# Altium footprint library PcbLib1.PcbLib: 30 footprints (part 1 of 2)
Each footprint in its own frame and in the unit in brackets; x right, y up, seen from the top. Pads: shape width x height; smd on the part's side, far side on the other; paste and mask are expansions set on the pad; w line width, h text height; cw(c..) or ccw(c..) is an arc to the next point about the centre after c.
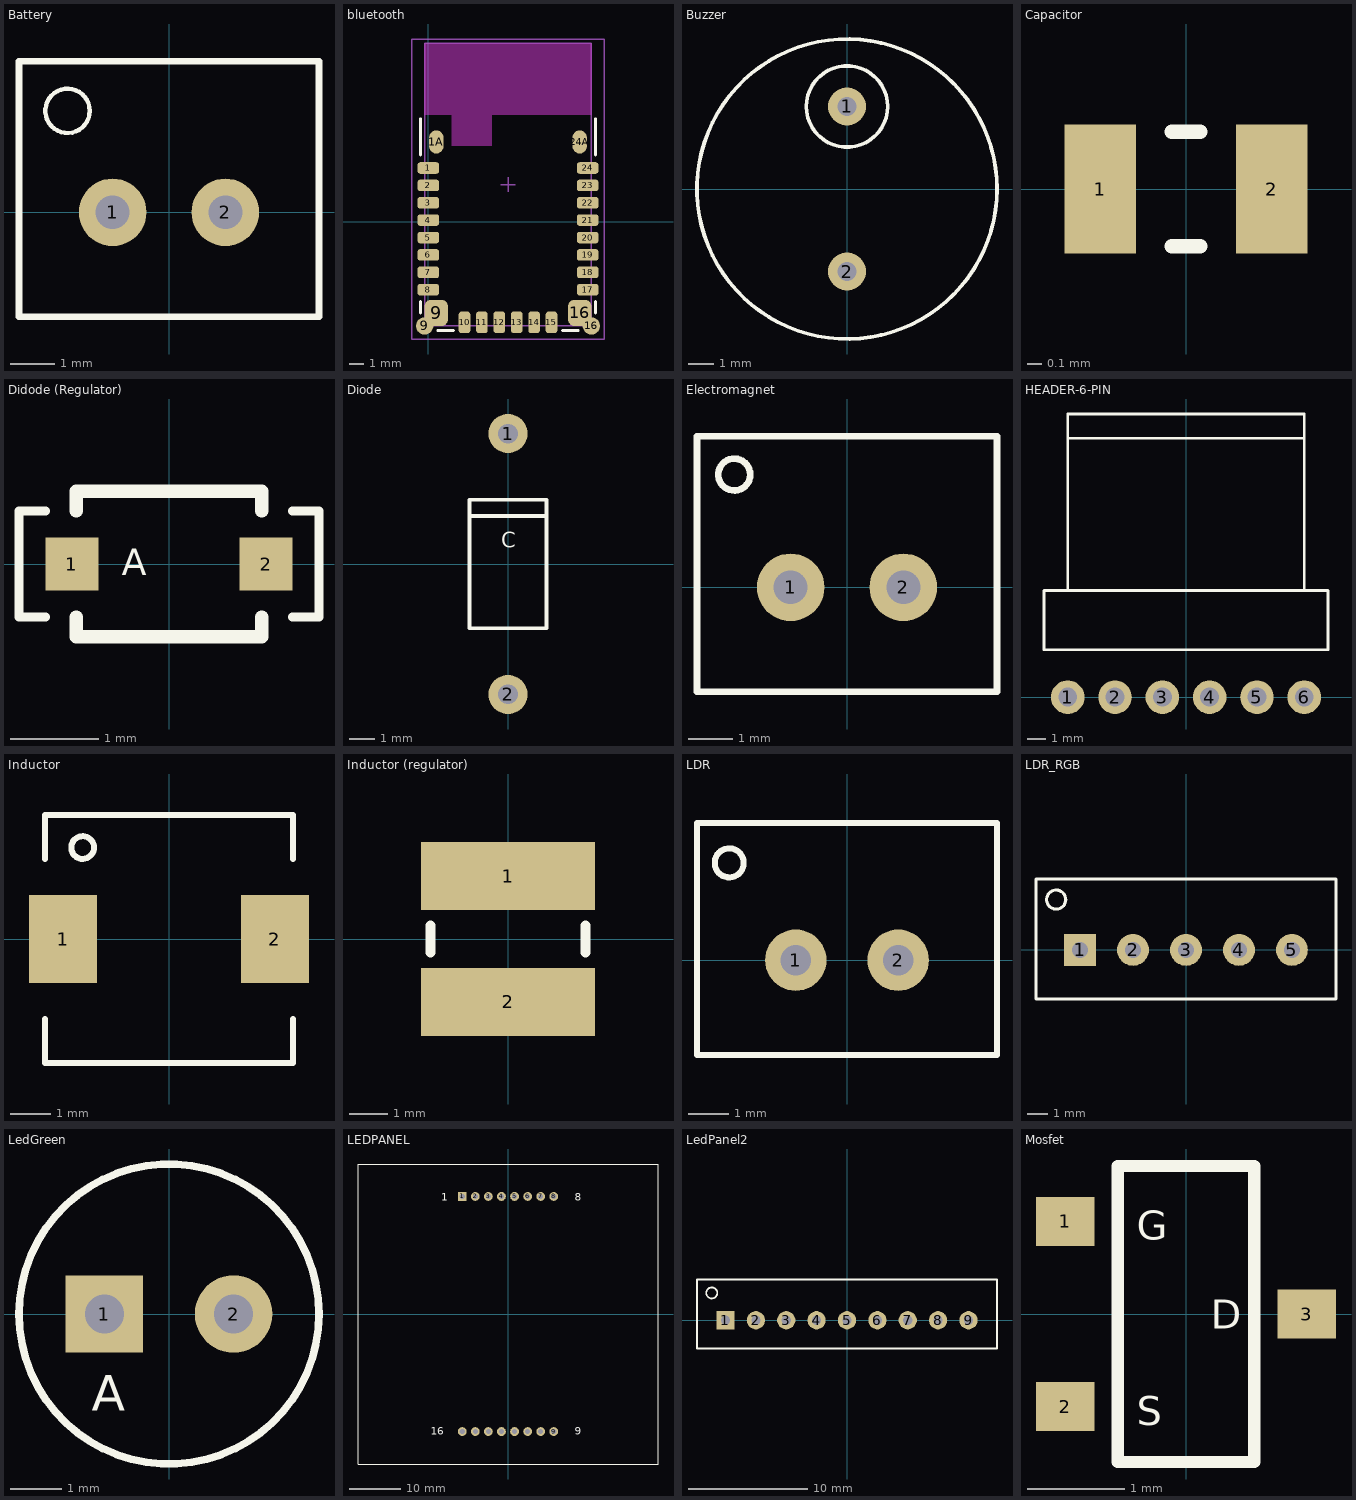
[diagram p0: the footprints below, top view; thin cyan lines are the x and y axes]

## Battery [mil]
pads (2):
  round 60 hole 30: 1(-50,0) 2(50,0)
Top Overlay:
  circle w3.94: c-90,90 r19.68
  lines w5.91: -133.07,-92.52 -133.07,133.86 133.07,133.86 133.07,-92.52 -133.07,-92.52

## bluetooth [mm] "RN4020"
pads (28):
  rrect50% 1.5x0.8 smd: 1(0,3.727) 2(0,2.527) 3(0,1.327) 4(0,0.127) 5(0,-1.073) 6(0,-2.273) 7(0,-3.473) 8(0,-4.673) 17(11,-4.673) 18(11,-3.473) 19(11,-2.273) 20(11,-1.073) 21(11,0.127) 22(11,1.327) 23(11,2.527) 24(11,3.727)
  oval 1x1.6 smd: 1A(0.55,5.527) 24A(10.45,5.527)
  round 1.2 smd: 9(-0.25,-7.173) 16(11.25,-7.173)
  rrect50% 1.6x1.8 smd: 9(0.55,-6.273) 16(10.45,-6.273)
  rrect50% 0.8x1.5 smd: 10(2.5,-6.923) 11(3.7,-6.923) 12(4.9,-6.923) 13(6.1,-6.923) 14(7.3,-6.923) 15(8.5,-6.923)
Top Overlay:
  lines w0.2: -0.55,-6.273 -0.55,-5.473 ; -0.55,4.627 -0.55,7.127 ; 0.65,-7.473 1.75,-7.473 ; 9.25,-7.473 10.35,-7.473 ; 11.55,-6.273 11.55,-5.473 ; 11.55,4.627 11.55,7.127
  text "." at -1.6,3.677 h1
Keep-Out Layer:
  rectangle: -0.25,7.377 11.25,12.327
  rectangle: 1.6,5.227 4.4,7.377
Mechanical 11:
  lines w0.1: -0.25,-7.173 -0.25,12.327 11.25,12.327 11.25,-7.173 -0.25,-7.173
Mechanical 15:
  lines w0.1: 5,2.577 6,2.577 ; 5.5,2.077 5.5,3.077 ; -1.15,-8.073 12.15,-8.073 12.15,12.627 -1.15,12.627 -1.15,-8.073

## Buzzer [mil] "ABT-414-RC"
pads (2):
  round 60 hole 30: 1(0,129.92) 2(0,-129.92)
Top Overlay:
  circle w5.91: c0,129.92 r64.08
  circle w5.91: c0,0 r236.22

## Capacitor [mm] "0603"
pads (2):
  rect 0.5x0.9 smd: 1(-0.6,0) 2(0.6,0)
Top Overlay:
  lines w0.1: -0.1,-0.4 0.1,-0.4 ; -0.1,0.4 0.1,0.4

## Didode (Regulator) [mm] "BAS316,115"
pads (2):
  rect 0.6x0.6 smd: 1(-1.1,0) 2(1.1,0)
Top Overlay:
  lines w0.1: -1.4,-0.6 -1.7,-0.6 -1.7,0.6 -1.4,0.6 ; 1.4,-0.6 1.7,-0.6 1.7,0.6 1.4,0.6
  lines w0.15: -1.05,-0.6 -1.05,-0.825 1.05,-0.825 1.05,-0.6 ; -1.05,0.6 -1.05,0.825 1.05,0.825 1.05,0.6
  text "A" at -0.254,-0.127 h0.3

## Diode [mil] "1N4001"
pads (2):
  round 60 hole 30: 1(0,200) 2(0,-200)
Top Overlay:
  lines w5.91: -59.06,73.43 59.06,73.43 ; -59.06,-98.43 -59.06,98.43 59.06,98.43 59.06,-98.43 -59.06,-98.43
  text "C" at -10,25 h23.62

## Electromagnet [mil]
pads (2):
  round 60 hole 30: 1(-50,0) 2(50,0)
Top Overlay:
  circle w5.91: c-100,100 r14.14
  lines w5.91: -133.07,-92.52 133.07,-92.52 133.07,133.86 -133.07,133.86 -133.07,-92.52

## HEADER-6-PIN [mm] "22-29-2061"
pads (6):
  round 1.8 hole 1.02: 1(-6.35,0) 2(-3.81,0) 3(-1.27,0) 4(1.27,0) 5(3.81,0) 6(6.35,0)
Top Overlay:
  lines w0.15: -6.35,5.73 -6.35,15.21 6.35,15.21 6.35,5.73 ; -6.35,13.91 6.35,13.91 ; -7.62,2.55 7.62,2.55 7.62,5.73 -7.62,5.73 -7.62,2.55

## Inductor [mm]
pads (2):
  rect 1.7x2.2 smd: 1(-2.65,0) 2(2.65,0)
Top Overlay:
  circle w0.15: c-2.159,2.286 r0.284
  lines w0.15: -3.1,-2 -3.1,-3.1 3.1,-3.1 3.1,-2 ; -3.1,2 -3.1,3.1 3.1,3.1 3.1,2

## Inductor (regulator) [mm] "744773139"
pads (2):
  rect 4.5x1.75 smd: 1(0,1.625) 2(0,-1.625)
Top Overlay:
  lines w0.254: -2,-0.35 -2,0.35 ; 2,-0.35 2,0.35

## LDR [mil] "NORPS-12"
pads (2):
  round 60 hole 30: 1(-50,0) 2(50,0)
Top Overlay:
  circle w5.91: c-115,95 r14.14
  lines w5.91: -146.46,-92.52 146.46,-92.52 146.46,133.86 -146.46,133.86 -146.46,-92.52

## LDR_RGB [mil]
pads (5):
  rect 60x60 hole 30: 1(-200,0)
  round 60 hole 30: 2(-100,0) 3(0,0) 4(100,0) 5(200,0)
Top Overlay:
  circle w5.91: c-245,95 r18.03
  lines w5.91: -283.07,-92.52 -283.07,133.86 283.07,133.86 283.07,-92.52 -283.07,-92.52

## LedGreen [mil] "MCL053GD"
pads (2):
  rect 60x60 hole 30: 1(-50,0)
  round 60 hole 30: 2(50,0)
Top Overlay:
  circle w5.91: c0,0 r116.14
  text "A" at -60,-75 h27.56

## LEDPANEL [mm] "TC23-11GWA"
pads (16):
  rect 1.7x1.7 hole 1: 1(-8.89,22.86)
  round 1.7 hole 1: 2(-6.35,22.86) 3(-3.81,22.86) 4(-1.27,22.86) 5(1.27,22.86) 6(3.81,22.86) 7(6.35,22.86) 8(8.89,22.86) 9(8.89,-22.86) 10(6.35,-22.86) 11(3.81,-22.86) 12(1.27,-22.86) 13(-1.27,-22.86) 14(-3.81,-22.86) 15(-6.35,-22.86) 16(-8.89,-22.86)
Top Overlay:
  lines w0.15: -29.17,-29.17 29.17,-29.17 29.17,29.17 -29.17,29.17 -29.17,-29.17
  text "1" at -13,22 h1.52
  text "8" at 13,22 h1.52
  text "9" at 13,-23.5 h1.52
  text "16" at -15,-23.5 h1.52

## LedPanel2 [mil]
pads (9):
  rect 60x60 hole 30: 1(-400,0)
  round 60 hole 30: 2(-300,0) 3(-200,0) 4(-100,0) 5(0,0) 6(100,0) 7(200,0) 8(300,0) 9(400,0)
Top Overlay:
  circle w5.91: c-445,90 r18.03
  lines w5.91: -493.7,-92.52 493.7,-92.52 493.7,133.86 -493.7,133.86 -493.7,-92.52

## Mosfet [mm] "2N7002_G"
pads (3):
  rect 0.6x0.5 smd: 1(-1.24,0.95) 2(-1.24,-0.95) 3(1.24,0)
Top Overlay:
  lines w0.127: -0.7,-1.52 -0.7,1.52 0.7,1.52 0.7,-1.52 -0.7,-1.52
  text "D" at 0.254,-0.15 h0.3
  text "G" at -0.508,0.762 h0.3
  text "S" at -0.508,-1.143 h0.3